# EAGLE library part *556 (library 555,556-v2)
Dual TIMER
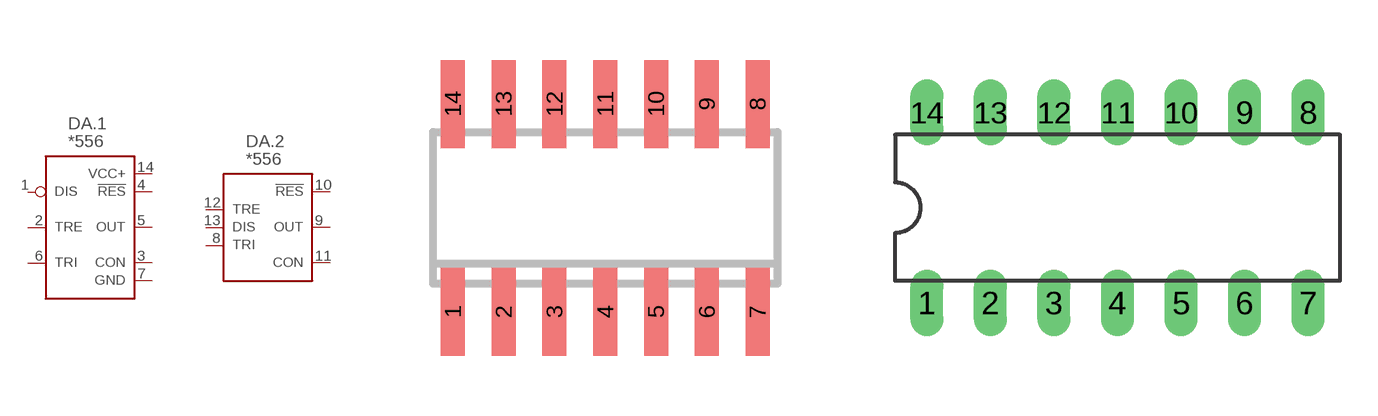
[diagram p1: symbol with the pads of SO14; footprints SO14, DIL14]

Designator prefix DA; gates .1=555 .2=556

## NA556D  [SO14]
1  .1:DIS  in
2  .1:TRE  in
3  .1:CON  in
4  .1:!RES  in
5  .1:OUT  out
6  .1:TRI  in
7  .1:GND  pwr
8  .2:TRI  in
9  .2:OUT  out
10  .2:!RES  in
11  .2:CON  in
12  .2:TRE  in
13  .2:DIS1  in
14  .1:VCC+  pwr

## NA556N  [DIL14]
Pads as for SO14

## Footprint SO14 (pad centres in mm)
Small Outline Package 14
smd 0.6 x 2.2: 1 -3.81,-2.6; 2 -2.54,-2.6; 3 -1.27,-2.6; 4 0,-2.6; 5 1.27,-2.6; 6 2.54,-2.6; 7 3.81,-2.6; 8 3.81,2.6; 9 2.54,2.6; 10 1.27,2.6; 11 0,2.6; 12 -1.27,2.6; 13 -2.54,2.6; 14 -3.81,2.6

## Footprint DIL14 (pad centres in mm)
Dual In Line Package
drill 0.813 long: 1 -7.62,-3.81; 2 -5.08,-3.81; 3 -2.54,-3.81; 4 0,-3.81; 5 2.54,-3.81; 6 5.08,-3.81; 7 7.62,-3.81; 8 7.62,3.81; 9 5.08,3.81; 10 2.54,3.81; 11 0,3.81; 12 -2.54,3.81; 13 -5.08,3.81; 14 -7.62,3.81